# EAGLE library part ADC0831 (library MlabPaja)
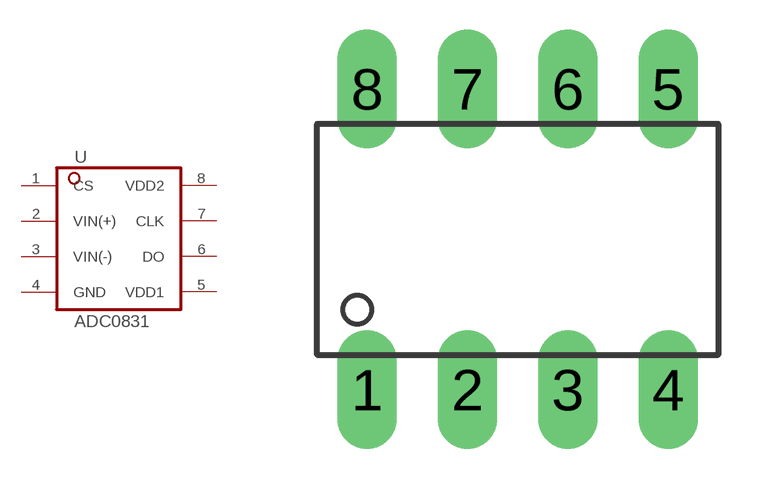
[diagram p8: symbol with the pads of 8PIN_NARROW_2; footprint 8PIN_NARROW_2]

Designator prefix -

## ADC0831  [8PIN_NARROW_2]
1  CS
2  VIN(+)
3  VIN(-)
4  GND  pwr
5  VDD1  pwr
6  DO
7  CLK
8  VDD2  pwr

## Footprint 8PIN_NARROW_2 (pad centres in mm)
Dual In Line Package
drill 1 long: 1 -5.08,-5.08; 2 -2.54,-5.08; 3 0,-5.08; 4 2.54,-5.08; 5 2.54,2.54; 6 0,2.54; 7 -2.54,2.54; 8 -5.08,2.54